# Altium schematic symbol library SCH - MCU - INFINEON XMC - INFINEON XMC1202Q040.SchLib: 1 symbol
Pins are listed as number, name and electrical type; pins without a type are passive.

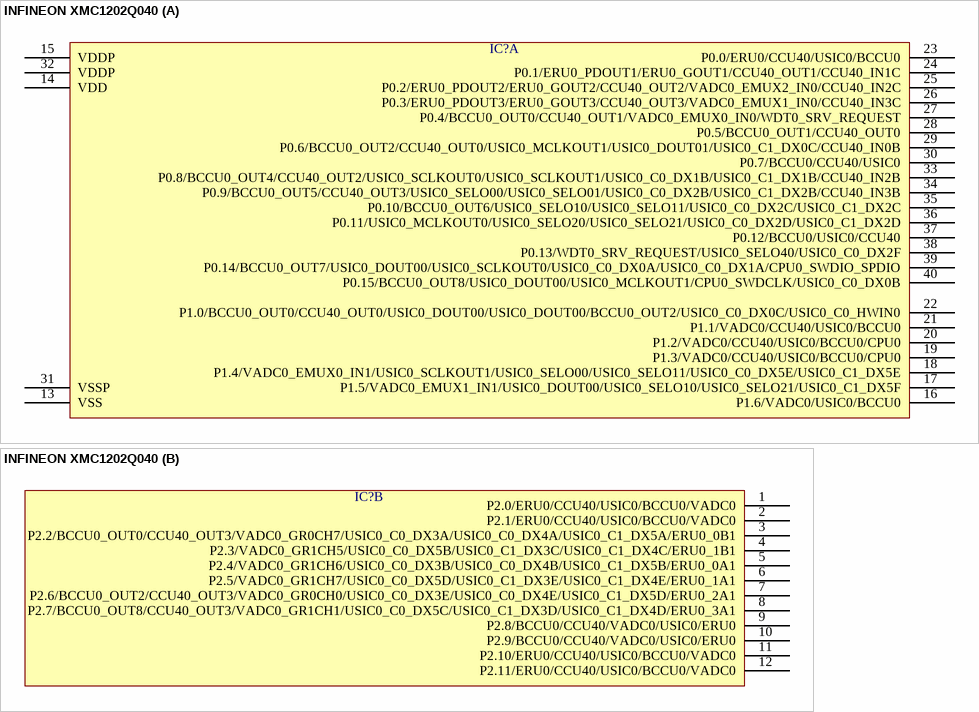
[diagram p0: symbol INFINEON XMC1202Q040]

## INFINEON XMC1202Q040
designator IC?  (value not drawn)
part A pins: 13 VSS, 14 VDD, 15 VDDP, 16 P1.6/VADC0/USIC0/BCCU0, 17 P1.5/VADC0_EMUX1_IN1/USIC0_DOUT00/USIC0_SELO10/USIC0_SELO21/USIC0_C1_DX5F, 18 P1.4/VADC0_EMUX0_IN1/USIC0_SCLKOUT1/USIC0_SELO00/USIC0_SELO11/USIC0_C0_DX5E/USIC0_C1_DX5E, 19 P1.3/VADC0/CCU40/USIC0/BCCU0/CPU0, 20 P1.2/VADC0/CCU40/USIC0/BCCU0/CPU0, 21 P1.1/VADC0/CCU40/USIC0/BCCU0, 22 P1.0/BCCU0_OUT0/CCU40_OUT0/USIC0_DOUT00/USIC0_DOUT00/BCCU0_OUT2/USIC0_C0_DX0C/USIC0_C0_HWIN0, 23 P0.0/ERU0/CCU40/USIC0/BCCU0, 24 P0.1/ERU0_PDOUT1/ERU0_GOUT1/CCU40_OUT1/CCU40_IN1C, 25 P0.2/ERU0_PDOUT2/ERU0_GOUT2/CCU40_OUT2/VADC0_EMUX2_IN0/CCU40_IN2C, 26 P0.3/ERU0_PDOUT3/ERU0_GOUT3/CCU40_OUT3/VADC0_EMUX1_IN0/CCU40_IN3C, 27 P0.4/BCCU0_OUT0/CCU40_OUT1/VADC0_EMUX0_IN0/WDT0_SRV_REQUEST, 28 P0.5/BCCU0_OUT1/CCU40_OUT0, 29 P0.6/BCCU0_OUT2/CCU40_OUT0/USIC0_MCLKOUT1/USIC0_DOUT01/USIC0_C1_DX0C/CCU40_IN0B, 30 P0.7/BCCU0/CCU40/USIC0, 31 VSSP, 32 VDDP, 33 P0.8/BCCU0_OUT4/CCU40_OUT2/USIC0_SCLKOUT0/USIC0_SCLKOUT1/USIC0_C0_DX1B/USIC0_C1_DX1B/CCU40_IN2B, 34 P0.9/BCCU0_OUT5/CCU40_OUT3/USIC0_SELO00/USIC0_SELO01/USIC0_C0_DX2B/USIC0_C1_DX2B/CCU40_IN3B, 35 P0.10/BCCU0_OUT6/USIC0_SELO10/USIC0_SELO11/USIC0_C0_DX2C/USIC0_C1_DX2C, 36 P0.11/USIC0_MCLKOUT0/USIC0_SELO20/USIC0_SELO21/USIC0_C0_DX2D/USIC0_C1_DX2D, 37 P0.12/BCCU0/USIC0/CCU40, 38 P0.13/WDT0_SRV_REQUEST/USIC0_SELO40/USIC0_C0_DX2F, 39 P0.14/BCCU0_OUT7/USIC0_DOUT00/USIC0_SCLKOUT0/USIC0_C0_DX0A/USIC0_C0_DX1A/CPU0_SWDIO_SPDIO, 40 P0.15/BCCU0_OUT8/USIC0_DOUT00/USIC0_MCLKOUT1/CPU0_SWDCLK/USIC0_C0_DX0B
part B pins: 1 P2.0/ERU0/CCU40/USIC0/BCCU0/VADC0, 2 P2.1/ERU0/CCU40/USIC0/BCCU0/VADC0, 3 P2.2/BCCU0_OUT0/CCU40_OUT3/VADC0_GR0CH7/USIC0_C0_DX3A/USIC0_C0_DX4A/USIC0_C1_DX5A/ERU0_0B1, 4 P2.3/VADC0_GR1CH5/USIC0_C0_DX5B/USIC0_C1_DX3C/USIC0_C1_DX4C/ERU0_1B1, 5 P2.4/VADC0_GR1CH6/USIC0_C0_DX3B/USIC0_C0_DX4B/USIC0_C1_DX5B/ERU0_0A1, 6 P2.5/VADC0_GR1CH7/USIC0_C0_DX5D/USIC0_C1_DX3E/USIC0_C1_DX4E/ERU0_1A1, 7 P2.6/BCCU0_OUT2/CCU40_OUT3/VADC0_GR0CH0/USIC0_C0_DX3E/USIC0_C0_DX4E/USIC0_C1_DX5D/ERU0_2A1, 8 P2.7/BCCU0_OUT8/CCU40_OUT3/VADC0_GR1CH1/USIC0_C0_DX5C/USIC0_C1_DX3D/USIC0_C1_DX4D/ERU0_3A1, 9 P2.8/BCCU0/CCU40/VADC0/USIC0/ERU0, 10 P2.9/BCCU0/CCU40/VADC0/USIC0/ERU0, 11 P2.10/ERU0/CCU40/USIC0/BCCU0/VADC0, 12 P2.11/ERU0/CCU40/USIC0/BCCU0/VADC0